# Altium footprint library HRS_FH63S-10S-0.5SH.PcbLib: 1 footprints
Each footprint in its own frame and in the unit in brackets; x right, y up, seen from the top. Pads: shape width x height; smd on the part's side, far side on the other; paste and mask are expansions set on the pad; w line width, h text height; cw(c..) or ccw(c..) is an arc to the next point about the centre after c.
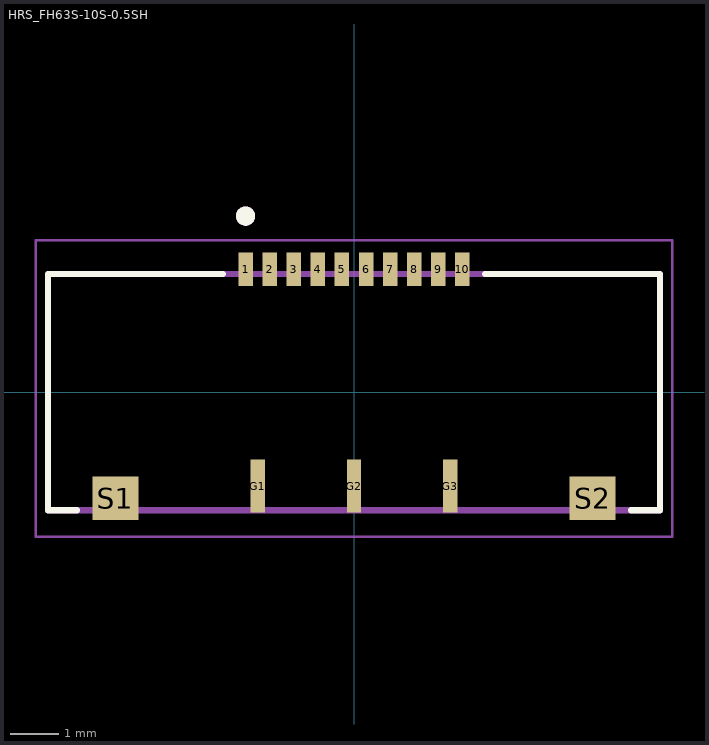
[diagram p0: the footprint, top view; thin cyan lines are the x and y axes]

## HRS_FH63S-10S-0.5SH [mm]
pads (15):
  rect 0.3x0.7 smd paste-1 mask+0.05: 1(-2.25,2.55) 2(-1.75,2.55) 3(-1.25,2.55) 4(-0.75,2.55) 5(-0.25,2.55) 6(0.25,2.55) 7(0.75,2.55) 8(1.25,2.55) 9(1.75,2.55) 10(2.25,2.55)
  rect 0.3x1.1 smd paste-2: G1(-2,-1.95) G2(0,-1.95) G3(2,-1.95)
  rect 0.95x0.9 smd paste-1: S1(-4.95,-2.2) S2(4.95,-2.2)
Top Overlay:
  circle w0.2: c-2.25,3.65 r0.1
  lines w0.127: -5.745,-2.45 -6.35,-2.45 -6.35,2.45 -2.72,2.45 ; 2.72,2.45 6.35,2.45 6.35,-2.45 5.745,-2.45
Top Paste:
  region: -2.11,2.25 -2.39,2.25 -2.39,2.9 -2.11,2.9
  region: -1.61,2.25 -1.89,2.25 -1.89,2.9 -1.61,2.9
  region: -1.11,2.25 -1.39,2.25 -1.39,2.9 -1.11,2.9
  region: -0.61,2.25 -0.89,2.25 -0.89,2.9 -0.61,2.9
  region: -0.11,2.25 -0.39,2.25 -0.39,2.9 -0.11,2.9
  region: 0.39,2.25 0.11,2.25 0.11,2.9 0.39,2.9
  region: 0.89,2.25 0.61,2.25 0.61,2.9 0.89,2.9
  region: 1.39,2.25 1.11,2.25 1.11,2.9 1.39,2.9
  region: 1.89,2.25 1.61,2.25 1.61,2.9 1.89,2.9
  region: 2.39,2.25 2.11,2.25 2.11,2.9 2.39,2.9
  region: 0.14,-2.5 -0.14,-2.5 -0.14,-1.55 0.14,-1.55
  region: -1.86,-2.5 -2.14,-2.5 -2.14,-1.55 -1.86,-1.55
  region: 2.14,-2.5 1.86,-2.5 1.86,-1.55 2.14,-1.55
  region: -4.55,-2.75 -5.35,-2.75 -5.35,-1.85 -4.55,-1.85
  region: 5.35,-2.75 4.55,-2.75 4.55,-1.85 5.35,-1.85
Mechanical 13:
  circle w0.2: c-2.25,3.65 r0.1
  lines w0.127: -6.35,-2.45 -6.35,2.45 6.35,2.45 6.35,-2.45 -6.35,-2.45
Mechanical 15:
  lines w0.05: -6.6,-3 -6.6,3.15 6.6,3.15 6.6,-3 -6.6,-3